# Altium schematic symbol library MCU_NXP_HCS12.SchLib: 1 symbol
Pins are listed as number, name and electrical type; pins without a type are passive.

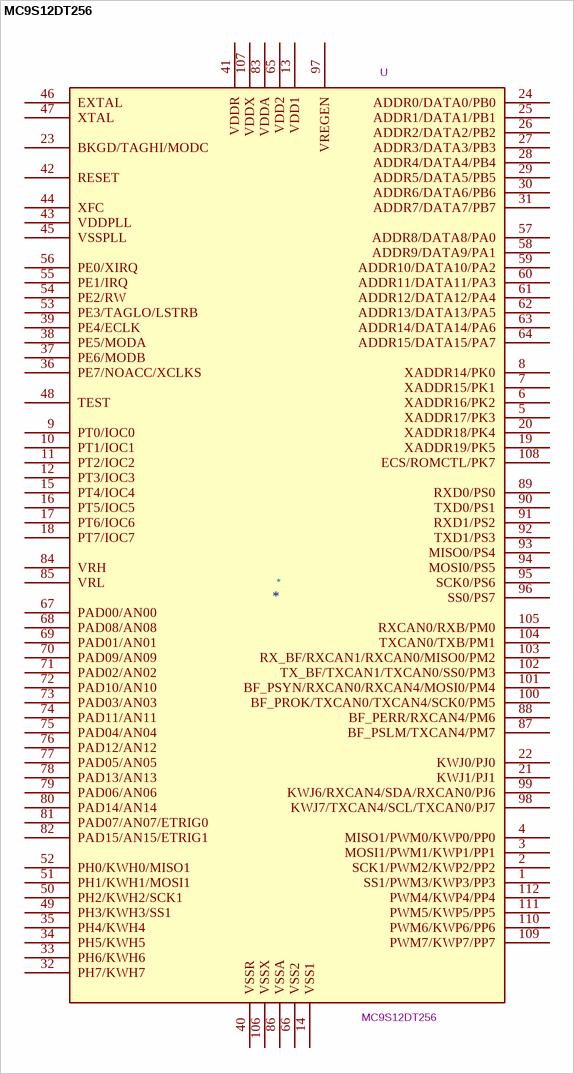
[diagram p0: symbol MC9S12DT256]

## MC9S12DT256
designator *  value MC9S12DT256  Reference: U
HCS12 Microcontroller; ki_keywords: HCS12 MCU; Datasheet: https://www.nxp.com/docs/en/fact-sheet/MC9S12DT256FS.pdf; Description_: HCS12 Microcontroller
pins: 1 SS1/PWM3/KWP3/PP3, 2 SCK1/PWM2/KWP2/PP2, 3 MOSI1/PWM1/KWP1/PP1, 4 MISO1/PWM0/KWP0/PP0, 5 XADDR17/PK3, 6 XADDR16/PK2, 7 XADDR15/PK1, 8 XADDR14/PK0, 9 PT0/IOC0, 10 PT1/IOC1, 11 PT2/IOC2, 12 PT3/IOC3, 13 VDD1, 14 VSS1, 15 PT4/IOC4, 16 PT5/IOC5, 17 PT6/IOC6, 18 PT7/IOC7, 19 XADDR19/PK5, 20 XADDR18/PK4, 21 KWJ1/PJ1, 22 KWJ0/PJ0, 23 BKGD/TAGHI/MODC, 24 ADDR0/DATA0/PB0, 25 ADDR1/DATA1/PB1, 26 ADDR2/DATA2/PB2, 27 ADDR3/DATA3/PB3, 28 ADDR4/DATA4/PB4, 29 ADDR5/DATA5/PB5, 30 ADDR6/DATA6/PB6, 31 ADDR7/DATA7/PB7, 32 PH7/KWH7, 33 PH6/KWH6, 34 PH5/KWH5, 35 PH4/KWH4, 36 PE7/NOACC/XCLKS, 37 PE6/MODB, 38 PE5/MODA, 39 PE4/ECLK, 40 VSSR, 41 VDDR, 42 RESET, 43 VDDPLL, 44 XFC, 45 VSSPLL, 46 EXTAL, 47 XTAL, 48 TEST, 49 PH3/KWH3/SS1, 50 PH2/KWH2/SCK1, 51 PH1/KWH1/MOSI1, 52 PH0/KWH0/MISO1, 53 PE3/TAGLO/LSTRB, 54 PE2/RW, 55 PE1/IRQ, 56 PE0/XIRQ, 57 ADDR8/DATA8/PA0, 58 ADDR9/DATA9/PA1, 59 ADDR10/DATA10/PA2, 60 ADDR11/DATA11/PA3, 61 ADDR12/DATA12/PA4, 62 ADDR13/DATA13/PA5, 63 ADDR14/DATA14/PA6, 64 ADDR15/DATA15/PA7, 65 VDD2, 66 VSS2, 67 PAD00/AN00, 68 PAD08/AN08, 69 PAD01/AN01, 70 PAD09/AN09, 71 PAD02/AN02, 72 PAD10/AN10, 73 PAD03/AN03, 74 PAD11/AN11, 75 PAD04/AN04, 76 PAD12/AN12, 77 PAD05/AN05, 78 PAD13/AN13, 79 PAD06/AN06, 80 PAD14/AN14, 81 PAD07/AN07/ETRIG0, 82 PAD15/AN15/ETRIG1, 83 VDDA, 84 VRH, 85 VRL, 86 VSSA, 87 BF_PSLM/TXCAN4/PM7, 88 BF_PERR/RXCAN4/PM6, 89 RXD0/PS0, 90 TXD0/PS1, 91 RXD1/PS2, 92 TXD1/PS3, 93 MISO0/PS4, 94 MOSI0/PS5, 95 SCK0/PS6, 96 SS0/PS7, 97 VREGEN, 98 KWJ7/TXCAN4/SCL/TXCAN0/PJ7, 99 KWJ6/RXCAN4/SDA/RXCAN0/PJ6, 100 BF_PROK/TXCAN0/TXCAN4/SCK0/PM5, 101 BF_PSYN/RXCAN0/RXCAN4/MOSI0/PM4, 102 TX_BF/TXCAN1/TXCAN0/SS0/PM3, 103 RX_BF/RXCAN1/RXCAN0/MISO0/PM2, 104 TXCAN0/TXB/PM1, 105 RXCAN0/RXB/PM0, 106 VSSX, 107 VDDX, 108 ECS/ROMCTL/PK7, 109 PWM7/KWP7/PP7, 110 PWM6/KWP6/PP6, 111 PWM5/KWP5/PP5, 112 PWM4/KWP4/PP4